# EAGLE library part 74*4066 (library 74-4066)
Quad analog SWITCH
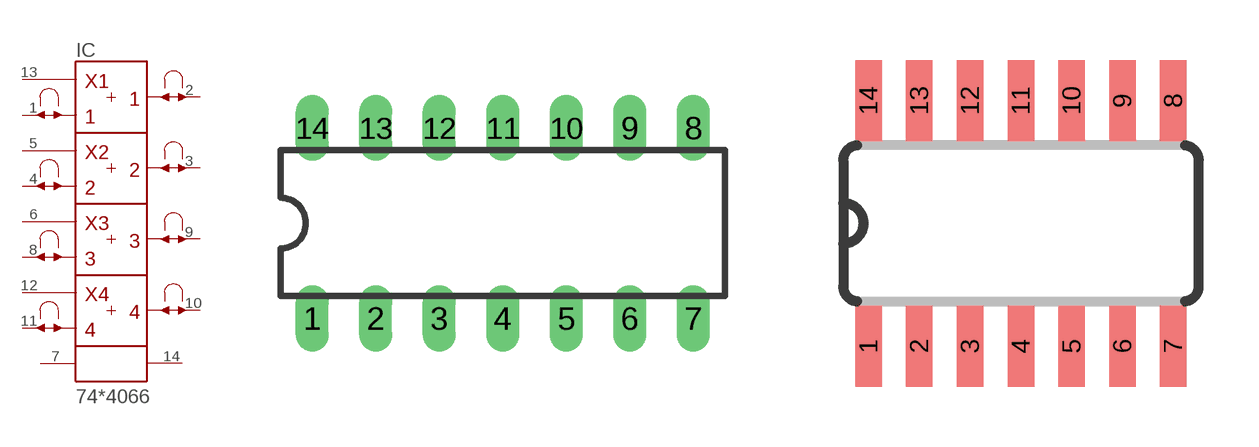
[diagram p0: symbol with the pads of DIL14; footprints DIL14, SO14]

Designator prefix IC

## 744066N  [DIL14]
1  1A  pas
2  1B  pas
3  2B  pas
4  2A  pas
5  2C  in
6  3C  in
7  GND  sup
8  3A  pas
9  3B  pas
10  4B  pas
11  4A  pas
12  4C  in
13  1C  in
14  VCC  sup

## 744066SOIC  [SO14]
Pads as for DIL14

## Footprint DIL14 (pad centres in mm)
Dual In Line Package
drill 0.813 long: 1 -7.62,-3.81; 2 -5.08,-3.81; 3 -2.54,-3.81; 4 0,-3.81; 5 2.54,-3.81; 6 5.08,-3.81; 7 7.62,-3.81; 8 7.62,3.81; 9 5.08,3.81; 10 2.54,3.81; 11 0,3.81; 12 -2.54,3.81; 13 -5.08,3.81; 14 -7.62,3.81

## Footprint SO14 (pad centres in mm)
Small Outline package 150 mil
smd 0.66 x 2.032: 1 -3.81,-3.073; 2 -2.54,-3.073; 3 -1.27,-3.073; 4 0,-3.073; 5 1.27,-3.073; 6 2.54,-3.073; 7 3.81,-3.073; 8 3.81,3.073; 9 2.54,3.073; 10 1.27,3.073; 11 0,3.073; 12 -1.27,3.073; 13 -2.54,3.073; 14 -3.81,3.073